# EAGLE library part ACFL-5212T (library IntegratedLib)
Optoacoplador automotivo digital bidirecional, dual-channel
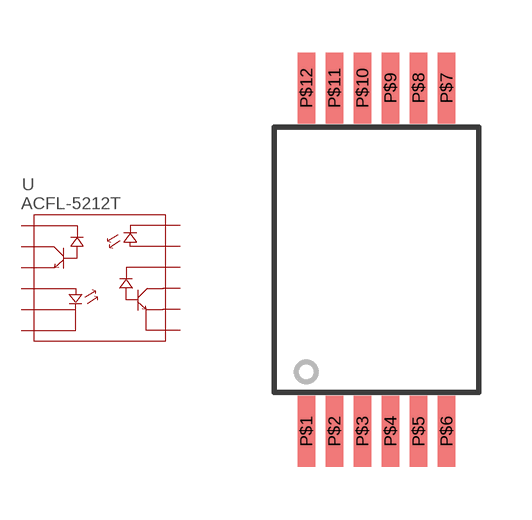
[diagram p23: symbol with the pads of BSOP-12; footprint BSOP-12]

Designator prefix U

## ACFL-5212T (FABRICANTE: BROADCOM; PARTNUMBER: ACFL-5212T; TIPO: CIRCUITO INTEGRADO)  [BSOP-12]
P$1  1_VCC1
P$2  2_VOUT1
P$3  3_GND1
P$4  4_AN2
P$5  5_CA2
P$6  6_CA2
P$7  7_GND2
P$8  8_GND2
P$9  9_VOUT2
P$10  10_VCC2
P$11  11_AN1
P$12  12_CA1

## Footprint BSOP-12 (pad centres in mm)
smd 0.5 x 2.03: P$1 -2,-4.9; P$2 -1.2,-4.9; P$3 -0.4,-4.9; P$4 0.4,-4.9; P$5 1.2,-4.9; P$6 2,-4.9; P$7 2,4.9; P$8 1.2,4.9; P$9 0.4,4.9; P$10 -0.4,4.9; P$11 -1.2,4.9; P$12 -2,4.9